# EAGLE library part AD9760ARZ (library AD9760-ADAPT)
DAC, 10BIT, 125MSPS, 0.5LSB, 28SOIC
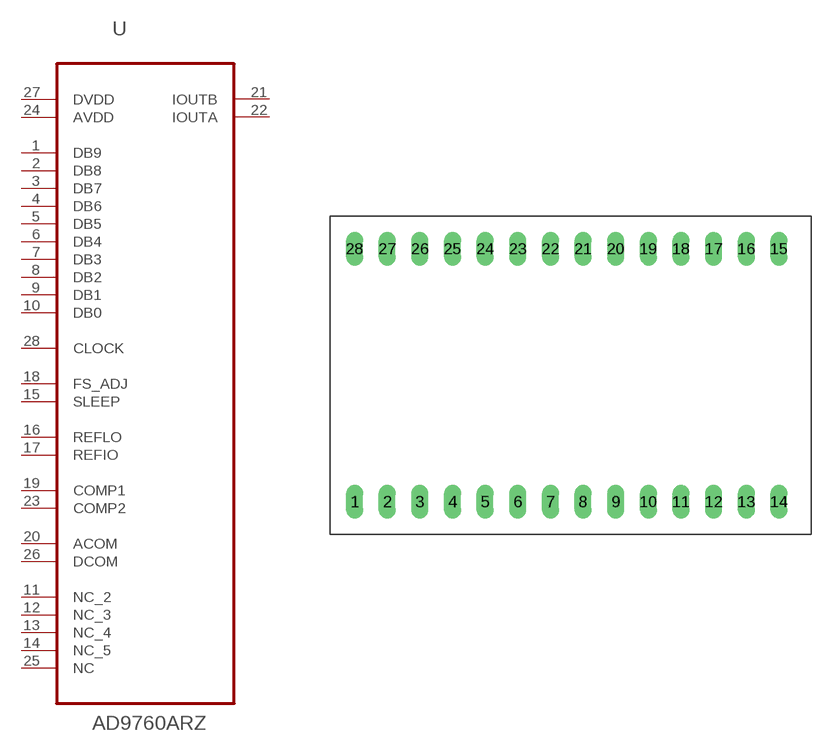
[diagram p0: symbol with the pads of SOIC127P1032X265-28N; footprint SOIC127P1032X265-28N]

Designator prefix U

## AD9760ARZ  [SOIC127P1032X265-28N]
1  DB9  in
2  DB8  in
3  DB7  in
4  DB6  in
5  DB5  in
6  DB4  in
7  DB3  in
8  DB2  in
9  DB1  in
10  DB0  in
11  NC_2  nc
12  NC_3  nc
13  NC_4  nc
14  NC_5  nc
15  SLEEP  in
16  REFLO  in
17  REFIO  in
18  FS_ADJ  in
19  COMP1  in
20  ACOM  pas
21  IOUTB  out
22  IOUTA  out
23  COMP2  in
24  AVDD  pwr
25  NC  nc
26  DCOM  pas
27  DVDD  pwr
28  CLOCK  in

## Footprint SOIC127P1032X265-28N (pad centres in mm)
drill 0.8 long: 1 -15.875,-10.16; 2 -13.335,-10.16; 3 -10.795,-10.16; 4 -8.255,-10.16; 5 -5.715,-10.16; 6 -3.175,-10.16; 7 -0.635,-10.16; 8 1.905,-10.16; 9 4.445,-10.16; 10 6.985,-10.16; 11 9.525,-10.16; 12 12.065,-10.16; 13 14.605,-10.16; 14 17.145,-10.16; 15 17.145,9.525; 16 14.605,9.525; 17 12.065,9.525; 18 9.525,9.525; 19 6.985,9.525; 20 4.445,9.525; 21 1.905,9.525; 22 -0.635,9.525; 23 -3.175,9.525; 24 -5.715,9.525; 25 -8.255,9.525; 26 -10.795,9.525; 27 -13.335,9.525; 28 -15.875,9.525